# EAGLE library part 2X7-1MM-HEADER (library CYCFI_Con)
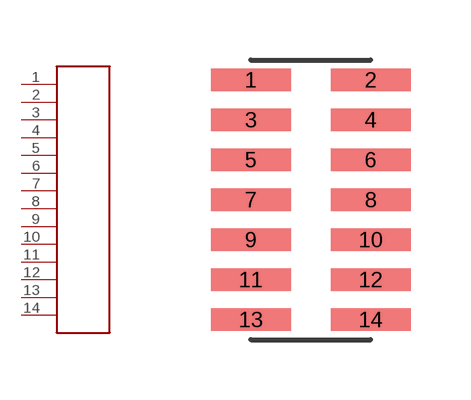
[diagram p33: symbol with the pads of 2X7-1MM; footprint 2X7-1MM]

Designator prefix -

## 2X7-1MM-HEADER  [2X7-1MM]
1  P$1
2  P$2
3  P$3
4  P$4
5  P$5
6  P$6
7  P$7
8  P$8
9  P$9
10  P$10
11  P$11
12  P$12
13  P$13
14  P$14

## Footprint 2X7-1MM (pad centres in mm)
smd 2 x 0.56: 1 0,0; 2 3,0; 3 0,-1; 4 3,-1; 5 0,-2; 6 3,-2; 7 0,-3; 8 3,-3; 9 0,-4; 10 3,-4; 11 0,-5; 12 3,-5; 13 0,-6; 14 3,-6